# Altium schematic symbol library PCB_Project_Smartkey_ECMN.SCHLIB: 24 symbols
Pins are listed as number, name and electrical type; pins without a type are passive.

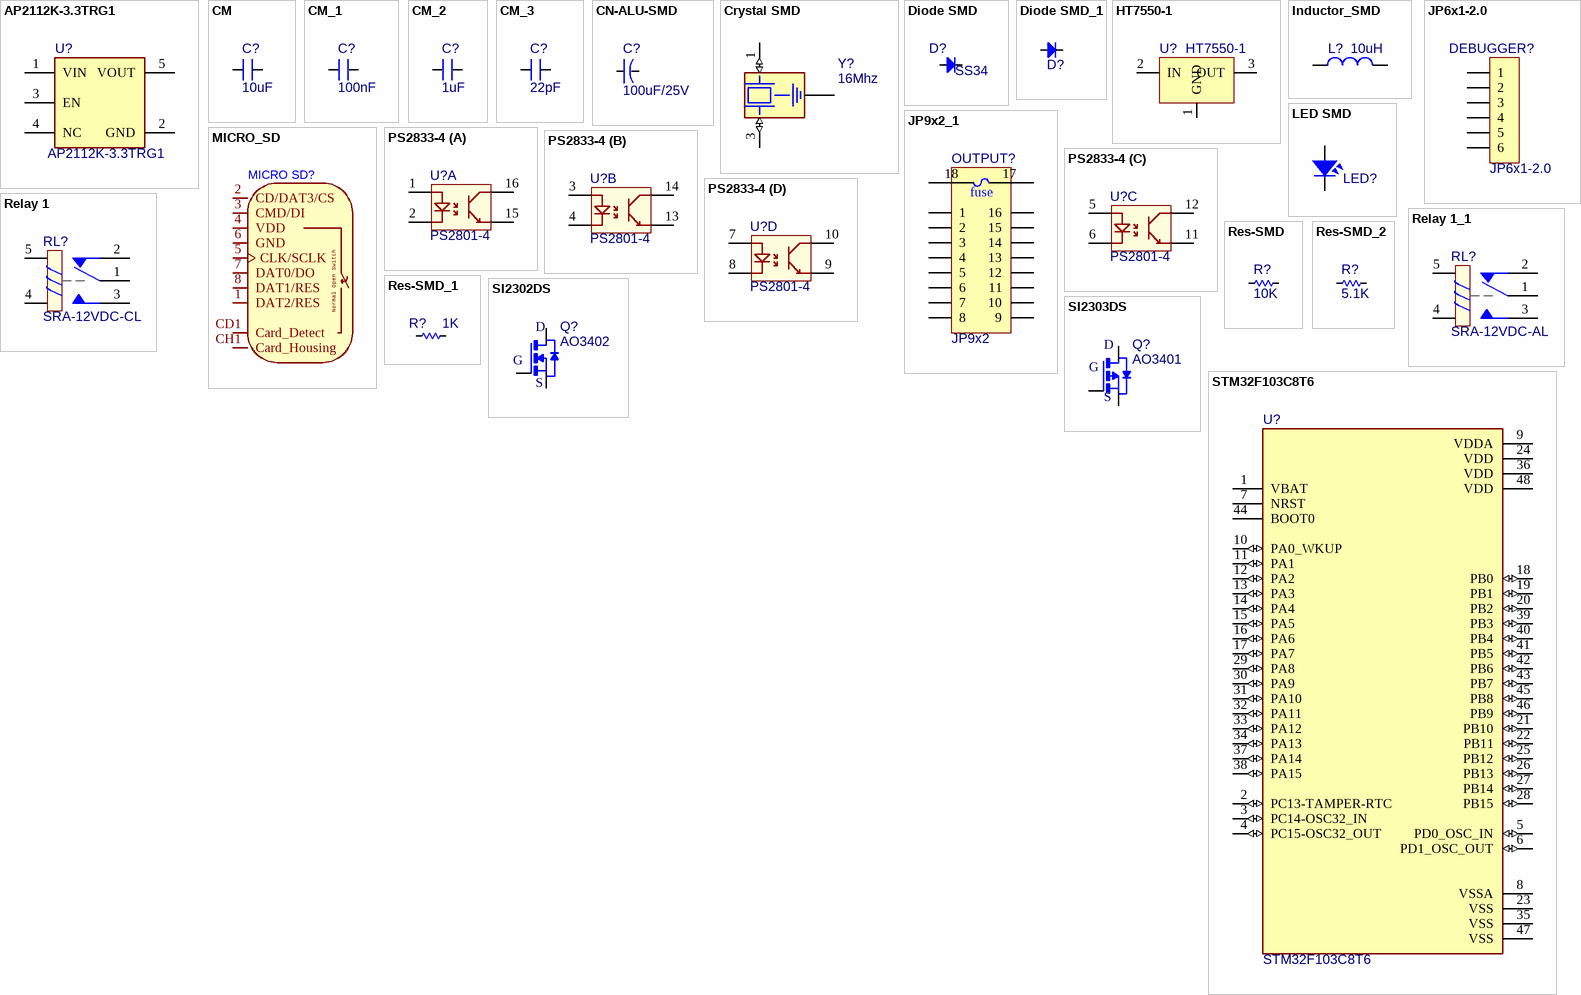
[diagram p0: symbols AP2112K-3.3TRG1 to STM32F103C8T6]

## AP2112K-3.3TRG1
designator U?
Linear Voltage Regulator IC Positive Fixed 1 Output 600mA SOT23-5; MF: Diodes Inc.; Value: *; Purchase-URL: https://pricing.snapeda.com/search/part/AP2112K-3.3TRG1/?ref=eda; Package: SOT-753 Diodes Inc.; Availability: In Stock; Check_prices: https://www.snapeda.com/parts/AP2112K-3.3TRG1/Diodes+Inc./view-part/?ref=eda; Price: None; SnapEDA_Link: https://www.snapeda.com/parts/AP2112K-3.3TRG1/Diodes+Inc./view-part/?ref=snap; MP: AP2112K-3.3TRG1
footprint SOT23-5 (SOT23, 5-Leads, Body 3.0x3.0mm (max), Pitch 0.95mm, IPC Medium Density)
pins: 1 VIN (power), 2 GND (power), 3 EN, 4 NC, 5 VOUT (power)

## CM
designator C?, comment 10uF
Cap SMD; Value: 103
footprint SM-0805 (Compoment SMD 80x50mil)
footprint C-0603 (Chip Capacitor; Body 1.6 x 0.8 mm (LxW typ))
footprint CAP-1206
footprint CAP-0402
pins: 1, 2

## CM_1
designator C?, comment 100nF
Cap SMD; Value: 103
footprint SM-0805 (Compoment SMD 80x50mil)
footprint C-0603 (Chip Capacitor; Body 1.6 x 0.8 mm (LxW typ))
footprint CAP-1206
footprint C-SMD-0402
pins: 1, 2

## CM_2
designator C?, comment 1uF
Cap SMD; Value: 103
footprint SM-0805 (Compoment SMD 80x50mil)
footprint C-0603 (Chip Capacitor; Body 1.6 x 0.8 mm (LxW typ))
footprint CAP-1206
footprint C-SMD-0402
pins: 1, 2

## CM_3
designator C?, comment 22pF
Cap SMD; Value: 103
footprint SM-0805 (Compoment SMD 80x50mil)
footprint C-0603 (Chip Capacitor; Body 1.6 x 0.8 mm (LxW typ))
footprint CAP-1206
footprint C-SMD-0402
pins: 1, 2

## CN-ALU-SMD
designator C?, comment 100uF/25V
Polarized Capacitor (Axial); Published: 8-Jun-2000; LatestRevisionDate: 17-Jul-2002; LatestRevisionNote: Re-released for DXP Platform.; PackageReference: POLAR0.8; Publisher: Altium Limited
footprint CAP-ALU-SMD-4.5x5x1.4
footprint CAP-ALU-SMD-5x5.5x1.4
footprint CAP-ALU-SMD-5.5x5.5
footprint CAP-ALU-SMD-6.3x7.7x2.2
footprint CAP-ALU-SMD-C
footprint CAP-ALU-SMD-D
footprint CAP-ALU-SMD-F
footprint CAP-ALU-SMD-G
footprint CAP-ALU-SMD-H
footprint CAP-ALU-SMD-J
footprint CAP-ALU-SMD-K
pins: 1, 2
1 alternate drawing of the same symbol

## Crystal SMD
designator Y?, comment 16Mhz
Crystal - 48MHz Â±10ppm - 10 pF - Â±15 ppm - -30 to +85Â°C 3225 Low aging; MF: ECS Inc.; MP: ECS-480-8-33B-CWY-TR3; Purchase-URL: https://pricing.snapeda.com/search/part/ECS-480-8-33B-CWY-TR3/?ref=eda; Package: None; Value: *; Check_prices: https://www.snapeda.com/parts/ECS-480-8-33B-CWY-TR3/ECS+Inc./view-part/?ref=eda; Price: None; SnapEDA_Link: https://www.snapeda.com/parts/ECS-480-8-33B-CWY-TR3/ECS+Inc./view-part/?ref=snap; Availability: In Stock
footprint XTAL_SMD_3325_4P
pins: 1 IN/OUT (io), 2 GND (power), 3 OUT/IN (io), 4 GND (power)

## Diode SMD
designator D?, comment SS34
Default Diode; Code - JEDEC: DO-214-AB; Value: 1N5007; Published: 8-Jun-2000; Revision: July-2002: Re-released for DXP Platform.; Publisher: Altium Limited
footprint DIO-SMD-106
footprint DIO-SMD-123
footprint DIO-SMD-A
footprint DIO-SMD-B (Magnetic-Core Inductor with Winding Polarity Marking; 2 Leads)
footprint DIO-SMD-216AA (DO216AA ST-MITE)
footprint DIO-SMD-222AA (DO216AA ST-MITE)
footprint DO-214AA
footprint SOD-323
pins: 1 A, 2 K

## Diode SMD_1
designator D?, comment 1N5819  (value not drawn)
Default Diode; Code - JEDEC: DO-214-AB; Value: 1N5007; Published: 8-Jun-2000; Revision: July-2002: Re-released for DXP Platform.; Publisher: Altium Limited
footprint DIO-SMD-106
footprint DIO-SMD-123
footprint DIO-SMD-A
footprint DIO-SMD-B (Magnetic-Core Inductor with Winding Polarity Marking; 2 Leads)
footprint DIO-SMD-216AA (DO216AA ST-MITE)
footprint DIO-SMD-222AA (DO216AA ST-MITE)
footprint DO-214AA
footprint SOD-323
footprint SOD-123
pins: 1 A, 2 K

## HT7550-1
designator U?
Voltage stabiliser; LDO, fixed; 5V; 0.1A; SOT89; SMD
footprint SOT89
pins: 1 GND, 2 IN, 3 OUT

## Inductor_SMD
designator L?, comment 10uH
Inductor; Value: 150 mH
footprint INDUCTOR_SMD_10X10mm
footprint Inductor_SMD_12X12mm
footprint INDUCTOR_SMD_7.6X7.6MM
footprint INDUCTOR_SMD_4X4MM
footprint INDUCTOR_SMD_7X7MM
footprint INDUCTOR_SMD_5x5mm_5030
footprint INDUCTOR_SMD_0603
footprint INDUCTOR_SMD_0402
pins: 1, 2

## JP6x1-2.0
designator DEBUGGER?
WR-PHD 2.00 mm Socket Header; Manufacturer: W¨¹rth Elektronik eiSos GmbH; partNo: 62000611821; ComponentLink1 Description: Manufacturer; ComponentLink2 Description: Datasheet; NoPins: 06; Created Date: 2 April 2013; ComponentLink1URL: http://www.we-online.com; ComponentLink2URL: http://katalog.we-online.de/em/datasheet/6200xx11821.pdf; Created by: Karrer Zheng
footprint J6-C1T (6p, 1 row, straight, gold plating)
footprint J6-D1T (6 pins, 1 row, straight, gold plating)
pins: 1, 2, 3, 4, 5, 6

## JP9x2_1
designator OUTPUT?, comment JP9x2
WR-PHD 2.54 mm Dual Socket Header; Manufacturer: W¨¹rth Elektronik eiSos GmbH; partNo: 61301821821; ComponentLink1 Description: Manufacturer; ComponentLink2 Description: Datasheet; NoPins: 18; Created Date: 29 March 2013; ComponentLink1URL: http://www.we-online.com; ComponentLink2URL: http://katalog.we-online.de/em/datasheet/6130xx21821.pdf; Created by: Karrer Zheng
footprint 9x2_JP200
pins: 1, 2, 3, 4, 5, 6, 7, 8, 9, 10, 11, 12, 13, 14, 15, 16, 17, 18
text: fuse

## LED SMD
designator LED?, comment LED  (value not drawn)
Value: LED 3 - 5 ly 2 Colour
footprint LED 3512
footprint LED-0805-Blue
footprint LED-0805-Green
footprint LED-0805-Orange
footprint LED-1206-Blue (Compoment SMD 120x60mil)
footprint LED-0805-Yellow
footprint LED-0805-Red
footprint LED-1206-Green
footprint LED-1206-Orange
footprint LED-1206-Red
footprint LED-1206-Yellow
footprint LED-BLUE 0805
footprint LED-GREEN-0805
footprint LED-ORANGE-0805
footprint LED-RED-0805
footprint LED-WHITE-0805
footprint LED-YELLOW-0805
footprint LED-0603-BLUE
footprint LED-0603-GREEN
footprint LED-0603-RED
footprint LED-0603-YELLOW
footprint LED-2835
pins: 1, 2

## MICRO_SD
designator MICRO SD?, comment ATFFS150A01BR016  (value not drawn)
TFC-9P-1.5H(ATFFS150A01BR016)
footprint USD(TFC-9P-1.XH(ATFFS150A01BR016))
pins: 1 DAT2/RES, 2 CD/DAT3/CS, 3 CMD/DI, 4 VDD, 5 CLK/SCLK, 6 GND, 7 DAT0/DO, 8 DAT1/RES, CD1 Card_Detect, CH1 Card_Housing
text: Normal Open Switch

## PS2833-4
designator U?, comment PS2801-4
LOW INPUT CURRENT, HIGH CTR 4, 16-PIN SSOP PHOTOCOUPLER
footprint SOIC127P700X230-16N
part A pins: 1, 2, 15, 16
part B pins: 3, 4, 13, 14
part C pins: 5, 6, 11, 12
part D pins: 7, 8, 9, 10

## Relay 1
designator RL?, comment SRA-12VDC-CL
Relay SPDT,10A - 12VDC 5 Pin; Value: Relay SPDT, 10A, 12V
footprint RL_SPDT_10A (Relay SPDT, 5 pin, 10A,W 650mil, L 800mil, H 800mil)
footprint YL318-DC12V-C
pins: 1, 2, 3, 4, 5

## Relay 1_1
designator RL?, comment SRA-12VDC-AL
Relay SPDT,10A - 12VDC 5 Pin; Value: Relay SPDT, 10A, 12V
footprint RL_SPDT_10A (Relay SPDT, 5 pin, 10A,W 650mil, L 800mil, H 800mil)
footprint YL318-DC12V-C
pins: 1, 2, 3, 4, 5

## Res-SMD
designator R?, comment 10K
Resistor; Manufacturer: Generic Components; Class: Passive; Published: 08/06/2000; Publisher: Altium Hobart Technology Centre
footprint RES-SMD-0101
footprint RES-SMD-0201
footprint RES-SMD-0603
footprint RES-SMD-0805
footprint RES-SMD-1206
footprint RES-SMD-1210 (Chip Capacitor, Body 3.2x2.5mm, IPC Medium Density)
footprint RES-SMD-1812 (Chip Capacitor, Body 3.2x2.5mm, IPC Medium Density)
footprint RES-SMD-2010 (Chip Capacitor, Body 3.2x2.5mm, IPC Medium Density)
footprint RES-SMD-2512 (Chip Capacitor, Body 3.2x2.5mm, IPC Medium Density)
footprint RES-SMD-0402
pins: 1, 2

## Res-SMD_1
designator R?, comment 1K
Resistor; Manufacturer: Generic Components; Class: Passive; Published: 08/06/2000; Publisher: Altium Hobart Technology Centre
footprint RES-SMD-0101
footprint RES-SMD-0201
footprint RES-SMD-0603
footprint RES-SMD-0805
footprint RES-SMD-1206
footprint RES-SMD-1210 (Chip Capacitor, Body 3.2x2.5mm, IPC Medium Density)
footprint RES-SMD-1812 (Chip Capacitor, Body 3.2x2.5mm, IPC Medium Density)
footprint RES-SMD-2010 (Chip Capacitor, Body 3.2x2.5mm, IPC Medium Density)
footprint RES-SMD-2512 (Chip Capacitor, Body 3.2x2.5mm, IPC Medium Density)
footprint RES-SMD-0402
pins: 1, 2

## Res-SMD_2
designator R?, comment 5.1K
Resistor; Manufacturer: Generic Components; Class: Passive; Published: 08/06/2000; Publisher: Altium Hobart Technology Centre
footprint RES-SMD-0101
footprint RES-SMD-0201
footprint RES-SMD-0603
footprint RES-SMD-0805
footprint RES-SMD-1206
footprint RES-SMD-1210 (Chip Capacitor, Body 3.2x2.5mm, IPC Medium Density)
footprint RES-SMD-1812 (Chip Capacitor, Body 3.2x2.5mm, IPC Medium Density)
footprint RES-SMD-2010 (Chip Capacitor, Body 3.2x2.5mm, IPC Medium Density)
footprint RES-SMD-2512 (Chip Capacitor, Body 3.2x2.5mm, IPC Medium Density)
footprint RES-SMD-0402
pins: 1, 2

## SI2302DS
designator Q?, comment AO3402
N-Channel 20V 2.5A _Tc_ 830mW _Tc_ Surface Mount TO-236AB _SOT23_; MP: SI2302DS; MF: NXP Semiconductors; SnapEDA_Link: https://www.snapeda.com/parts/SI2302DS/NXP%20Semiconductors/view-part/4701514/?ref=snap; Availability: Unavailable; Price: None; Value: *; Package: None
footprint SOT23-3
pins: 1 G, 2 S, 3 D

## SI2303DS
designator Q?, comment AO3401
P-Channel 20V 2.5A _Tc_ 830mW _Tc_ Surface Mount TO-236AB _SOT23_; MP: SI2302DS; MF: NXP Semiconductors; SnapEDA_Link: https://www.snapeda.com/parts/SI2302DS/NXP%20Semiconductors/view-part/4701514/?ref=snap; Availability: Unavailable; Price: None; Value: *; Package: None
footprint SOT23-3
pins: 1 G, 2 S, 3 D

## STM32F103C8T6
designator U?
MF: STMicroelectronics; Package: LQFP-48 STMicroelectronics; Price: None; Check_prices: https://www.snapeda.com/parts/STM32F103C8T6/STMicroelectronics/view-part/?ref=eda; Value: *; SnapEDA_Link: https://www.snapeda.com/parts/STM32F103C8T6/STMicroelectronics/view-part/?ref=snap; MP: STM32F103C8T6; Availability: In Stock; Purchase-URL: https://pricing.snapeda.com/search/part/STM32F103C8T6/?ref=eda
footprint QFP50P900X900X160-48N (QFP,0.50mm pitch,square;12 pin X 12 pin,7.00mm X 7.00mm X 1.60mm H body)
pins: 1 VBAT, 2 PC13-TAMPER-RTC (io), 3 PC14-OSC32_IN (io), 4 PC15-OSC32_OUT (io), 5 PD0_OSC_IN (io), 6 PD1_OSC_OUT (io), 7 NRST, 8 VSSA (power), 9 VDDA (power), 10 PA0_WKUP (io), 11 PA1 (io), 12 PA2 (io), 13 PA3 (io), 14 PA4 (io), 15 PA5 (io), 16 PA6 (io), 17 PA7 (io), 18 PB0 (io), 19 PB1 (io), 20 PB2 (io), 21 PB10 (io), 22 PB11 (io), 23 VSS (power), 24 VDD (power), 25 PB12 (io), 26 PB13 (io), 27 PB14 (io), 28 PB15 (io), 29 PA8 (io), 30 PA9 (io), 31 PA10 (io), 32 PA11 (io), 33 PA12 (io), 34 PA13 (io), 35 VSS (power), 36 VDD (power), 37 PA14 (io), 38 PA15 (io), 39 PB3 (io), 40 PB4 (io), 41 PB5 (io), 42 PB6 (io), 43 PB7 (io), 44 BOOT0, 45 PB8 (io), 46 PB9 (io), 47 VSS (power), 48 VDD (power)